# Altium schematic symbol library LT1506CS8-3.3#PBF.SchLib: 1 symbol
Pins are listed as number, name and electrical type; pins without a type are passive.

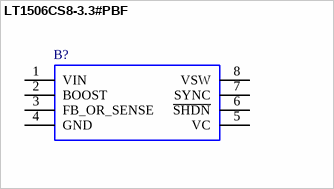
[diagram p0: symbol LT1506CS8-3.3#PBF]

## LT1506CS8-3.3#PBF
designator B?
Linear Technology, LT1506CS8-3.3#PBF Step-Down Switching Regulator 4.5A Adj./Fixed, Maximum of 3.3 V, 8-Pin SOIC; Manufacturer_Name: Analog Devices; Geometry.Height: 1.752mm; Mouser Part Number: 584-LT1506CS8-3.3PBF; Mouser Price/Stock: https://www.mouser.com/Search/Refine.aspx?Keyword=584-LT1506CS8-3.3PBF; Manufacturer_Part_Number: LT1506CS8-3.3#PBF; Datasheet Link: https://componentsearchengine.com/Datasheets/1/LT1506CS8-3.3#PBF.pdf
footprint SOIC127P599X175-8N
pins: 1 VIN, 2 BOOST, 3 FB_OR_SENSE, 4 GND, 5 VC, 6 ~{SHDN}, 7 SYNC, 8 VSW